# Altium integrated library Analog Devices Data Converters Digital-to-Analog Converters.IntLib: 2231 symbols (part 149 of 181)
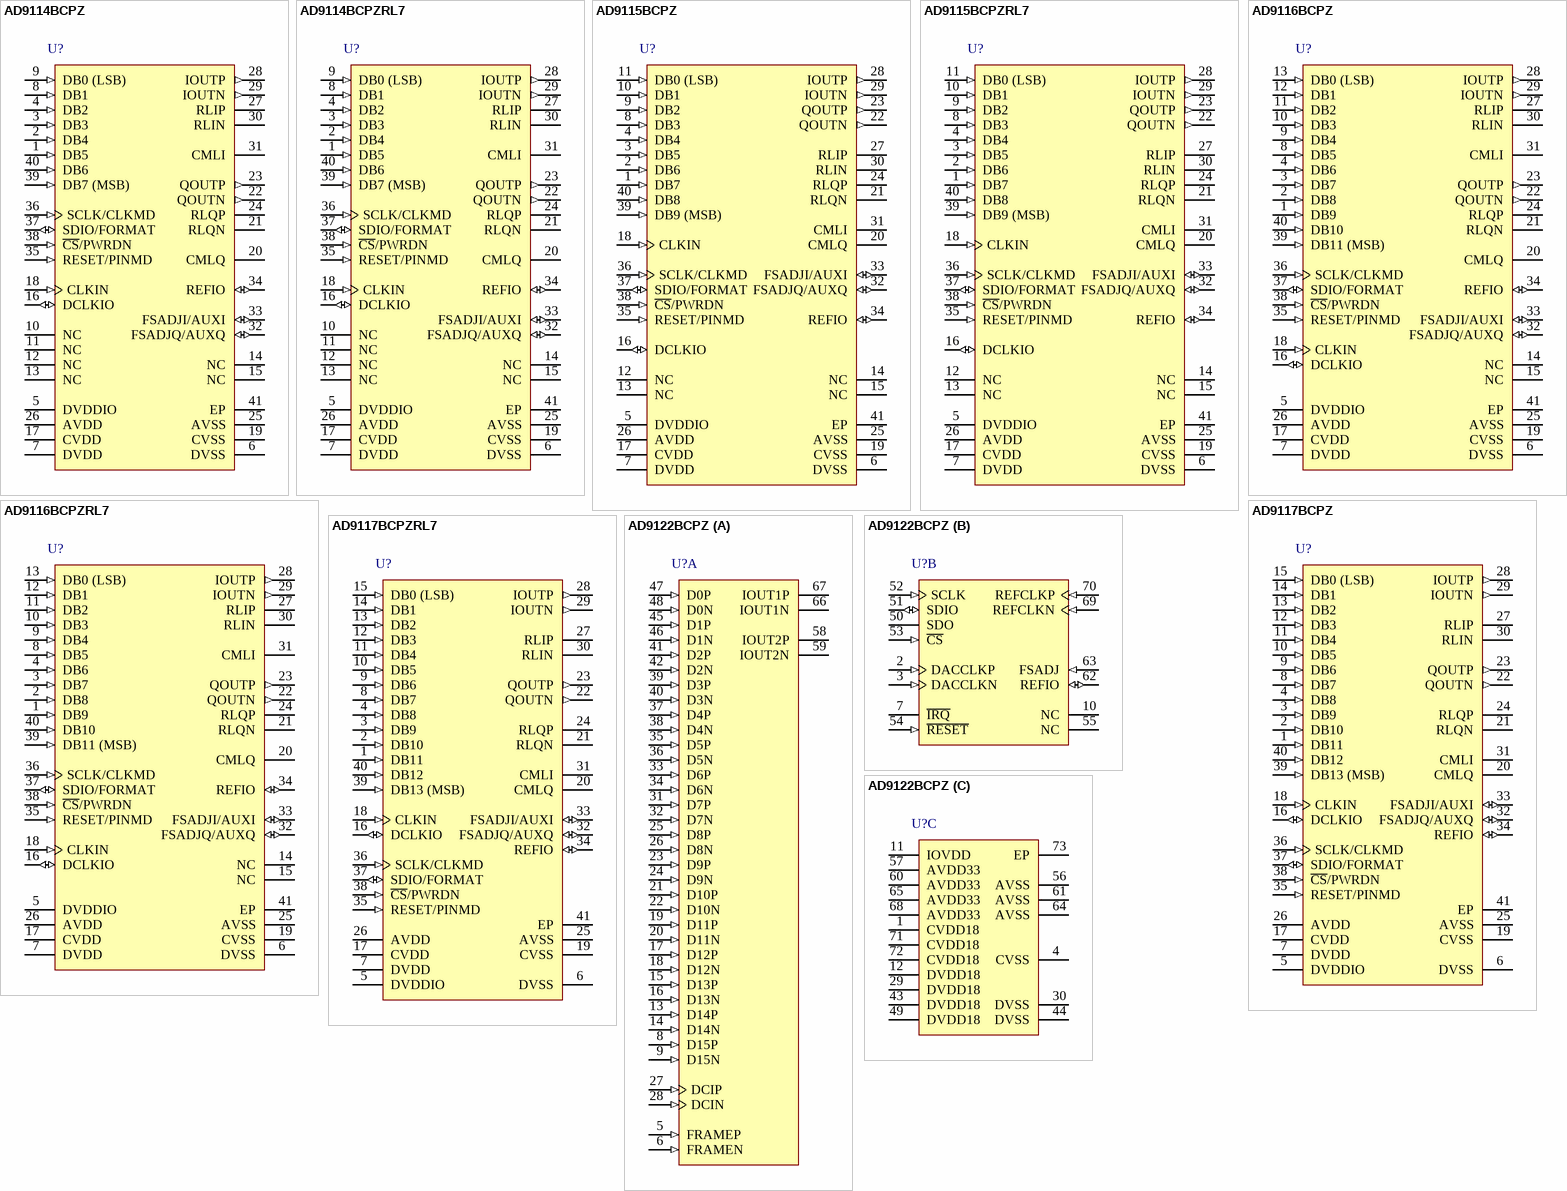
[diagram p262: symbols AD9114BCPZ to AD9122BCPZ]

## AD9117BCPZ
designator U?
Dual 14-Bit Low Power TxDAC Digital-to-Analog Converter, 0 to +70 degC, CP-40-1, Pb-Free, Tray; Generic Part Number: AD9117; Manufacturer: Analog Devices; PartNumber: AD9117BCPZ; # DAC Outputs: 2; Max V+: 3.3V; Resolution (Bits): 14; Single Supply: Yes; DatasheetVersion: Rev.B; PackageVersion: Oct-2006; PackageReference: CP-40-1; PackageDescription: 40-Pin Lead Frame Chip Scale Package [LFCSP_VQ] Very Thin Quad; Supplier 1: Digi-Key; Supplier Part Number 1: AD9117BCPZ-ND; Supplier 2: Farnell; Supplier Part Number 2: 2312691; Supplier 3: Newark; Supplier Part Number 3: 07P8997; Supplier 4: Mouser; Supplier Part Number 4: 584-AD9117BCPZ; Packing: Tray; RoHS: Y; Mounting Technology: Surface Mount; Code_JEDEC: MO-220-VJJD-2; ComponentLink1Description: Manufacturer URL; ComponentLink1URL: http://www.analog.com/en/index.html; ComponentLink2Description: Datasheet; ComponentLink2URL: http://www.analog.com/static/imported-files/data_sheets/AD9114_9115_9116_9117.pdf; ComponentLink3Description: Package Specification; ComponentLink3URL: http://www.analog.com/static/imported-files/packages/PKG_PDF/LFCSP(CP)/CP_40_1.pdf; ComponentLink4Description: Product URL; ComponentLink4URL: http://www.analog.com/en/digital-to-analog-converters/da-converters/ad9117/products/product.html; ComponentLink5Description: Reference Design URL; ComponentLink5URL: http://www.analog.com/en/digital-to-analog-converters/da-converters/ad9117/products/product.html#prod_cross_sell
footprint CP-40-1_N (QFN, 40-Leads, Body 6x6mm, Pitch 0.5mm, Thermal Pad 4.3x4.3mm, IPC Medium Density)
footprint CP-40-1_L (QFN, 40-Leads, Body 6x6mm, Pitch 0.5mm, Thermal Pad 4.3x4.3mm, IPC High Density)
footprint CP-40-1_M (QFN, 40-Leads, Body 6x6mm, Pitch 0.5mm, Thermal Pad 4.3x4.3mm, IPC Low Density)
pins: 1 DB11 (in) "Digital Input.", 2 DB10 (in) "Digital Input.", 3 DB9 (in) "Digital Input.", 4 DB8 (in) "Digital Input.", 5 DVDDIO (power) "Digital I/O Supply Voltage Input (1.8 V to 3.3 V Nominal).", 6 DVSS (power) "Digital Common.", 7 DVDD (power) "Digital Core Supply Voltage Output (1.8 V). Strap DVDD to DVDDIO at 1.8 V. If DVDDIO > 1.8 V, bypass DVDD  with a 1.0 uF capacitor; however, do not otherwise connect it. The LDO should not drive external loads.", 8 DB7 (in) "Digital Input.", 9 DB6 (in) "Digital Input.", 10 DB5 (in) "Digital Input.", 11 DB4 (in) "Digital Input.", 12 DB3 (in) "Digital Input.", 13 DB2 (in) "Digital Input.", 14 DB1 (in) "Digital Input.", 15 DB0 (LSB) (in) "Digital Input (LSB).", 16 DCLKIO (io) "Data Input/Output Clock. Clock used to qualify input data.", 17 CVDD (power) "Sampling Clock Supply Voltage Input (1.8 V to 3.3 V). CVDD must be >= DVDD.", 18 CLKIN (in) "LVCMOS Sampling Clock Input.", 19 CVSS (power) "Sampling Clock Supply Voltage Common.", 20 CMLQ "Q DAC Output Common-Mode Level. When the internal on-chip (QRCML) is enabled, this pin is connected to the on-chip QRCML resistor. It is recommended to leave this pin unconnected. When the internal on-chip (QRCML) is (See Datasheet)", 21 RLQN "Load Resistor (62.5 ohm) to the CMLQ Pin. For the internal load resistor to be used, this pin should be tied to QOUTN externally.", 22 QOUTN (out) "Complementary Q DAC Current Output. Full-scale current is sourced when all data bits are 0s.", 23 QOUTP (out) "Q DAC Current Output. Full-scale current is sourced when all data bits are 1s.", 24 RLQP "Load Resistor (62.5 ohm) to the CMLQ Pin. For the internal load resistor to be used, this pin should be tied to QOUTP externally.", 25 AVSS (power) "Analog Common.", 26 AVDD (power) "Analog Supply Voltage Input (1.8 V to 3.3 V).", 27 RLIP "Load Resistor (62.5 ohm) to the CMLI Pin. For the internal load resistor to be used, this pin should be tied to IOUTP externally.", 28 IOUTP (out) "I DAC Current Output. Full-scale current is sourced when all data bits are 1s.", 29 IOUTN (out) "Complementary I DAC Current Output. Full-scale current is sourced when all data bits are 0s.", 30 RLIN "Load Resistor (62.5 ohm) to the CMLI Pin. For the internal load resistor to be used, this pin should be tied to IOUTN externally.", 31 CMLI "I DAC Output Common-Mode Level. When the internal on-chip (IRCML) is enabled, this pin is connected to the on-chip IRCML resistor. It is recommended to leave this pin unconnected. When the internal on-chip (IRCML)  is (See Datasheet)", 32 FSADJQ/AUXQ (io) "Full-Scale Current Output Adjust (FSADJQ). When the internal on chip (QRSET) is disabled, this pin is the full-  scale current output adjust for Q DAC and must be connected to AVSS through a resistor, see the Theory of  (See Datasheet)", 33 FSADJI/AUXI (io) "Full-Scale Current Output Adjust (FSADJI). When the internal on-chip (IRSET) is disabled, this pin is the full-scale  current output adjust for I DAC and must be connected to AVSS through a resistor, see the Theory of (See Datasheet)", 34 REFIO (io) "Reference Input/Output. Serves as a reference input when the internal reference is disabled. Provides a 1.0 V reference output when in internal reference mode (a 0.1 uF capacitor to AVSS is required).", 35 RESET/PINMD (in) "This pin defines the operation mode of the part. A logic low (pull-down to DVSS) sets the part in SPI mode.A logic high (pull-up to DVDDIO) puts the device into pin mode (PINMD). Pulse RESET high to reset the SPI registers (See Datasheet)", 36 SCLK/CLKMD (in) "Clock Input for Serial Port (SCLK). In SPI mode, this pin is the clock input for the serial port.Clock Mode (CLKMD). In pin mode, CLKMD determines the phase of the internal retiming clock. When DCLKIO = CLKIN, tie it to 0. (See Datasheet)", 37 SDIO/FORMAT (io) "Serial Port Input/Output (SDIO). In SPI mode, this pin is the bidirectional data line for the serial port.Format Pin (FORMAT). In pin mode, FORMAT determines the data format of digital data. A logic low (pull-down to DVSS) (See Datasheet)", 38 ~{CS}/PWRDN (in) "Active Low Chip Select (C\S\). In SPI mode, this pin serves as the active low chip select.Power-Down (PWRDN). In pin mode, a logic high (pull-up to DVDDIO) powers down the device, except for the SPI port.", 39 DB13 (MSB) (in) "Digital Input (MSB).", 40 DB12 (in) "Digital Input.", 41 EP (power) "The exposed pad is connected to AVSS and must be soldered to the ground plane. Exposed metal at the  package corners is connected to this pad."

## AD9117BCPZRL7
designator U?
Dual 14-Bit Low Power TxDAC Digital-to-Analog Converters, 0 to +70 degC, CP-40-1, Pb-Free, Reel; Generic Part Number: AD9117; Manufacturer: Analog Devices; PartNumber: AD9117BCPZRL7; # DAC Outputs: 2; Max V+: 3.3V; Resolution (Bits): 14; Single Supply: Yes; DatasheetVersion: Rev.B; PackageVersion: Oct-2006; PackageReference: CP-40-1; PackageDescription: 40-Pin Lead Frame Chip Scale Package [LFCSP_VQ] Very Thin Quad; Supplier 1: Digi-Key; Supplier Part Number 1: AD9117BCPZRL7-ND; Supplier 2: Mouser; Supplier Part Number 2: 584-AD9117BCPZR7; Packing: Reel; RoHS: Y; Mounting Technology: Surface Mount; Code_JEDEC: MO-220-VJJD-2; ComponentLink1Description: Manufacturer URL; ComponentLink1URL: http://www.analog.com/en/index.html; ComponentLink2Description: Datasheet; ComponentLink2URL: http://www.analog.com/static/imported-files/data_sheets/AD9114_9115_9116_9117.pdf; ComponentLink3Description: Package Specification; ComponentLink3URL: http://www.analog.com/static/imported-files/packages/PKG_PDF/LFCSP(CP)/CP_40_1.pdf; ComponentLink4Description: Product URL; ComponentLink4URL: http://www.analog.com/en/digital-to-analog-converters/da-converters/ad9117/products/product.html; ComponentLink5Description: Reference Design URL; ComponentLink5URL: http://www.analog.com/en/digital-to-analog-converters/da-converters/ad9117/products/product.html#prod_cross_sell
footprint CP-40-1_N (QFN, 40-Leads, Body 6x6mm, Pitch 0.5mm, Thermal Pad 4.3x4.3mm, IPC Medium Density)
footprint CP-40-1_L (QFN, 40-Leads, Body 6x6mm, Pitch 0.5mm, Thermal Pad 4.3x4.3mm, IPC High Density)
footprint CP-40-1_M (QFN, 40-Leads, Body 6x6mm, Pitch 0.5mm, Thermal Pad 4.3x4.3mm, IPC Low Density)
pins: 1 DB11 (in) "Digital Input.", 2 DB10 (in) "Digital Input.", 3 DB9 (in) "Digital Input.", 4 DB8 (in) "Digital Input.", 5 DVDDIO (power) "Digital I/O Supply Voltage Input (1.8 V to 3.3 V Nominal).", 6 DVSS (power) "Digital Common.", 7 DVDD (power) "Digital Core Supply Voltage Output (1.8 V). Strap DVDD to DVDDIO at 1.8 V. If DVDDIO > 1.8 V, bypass DVDD  with a 1.0 uF capacitor; however, do not otherwise connect it. The LDO should not drive external loads.", 8 DB7 (in) "Digital Input.", 9 DB6 (in) "Digital Input.", 10 DB5 (in) "Digital Input.", 11 DB4 (in) "Digital Input.", 12 DB3 (in) "Digital Input.", 13 DB2 (in) "Digital Input.", 14 DB1 (in) "Digital Input.", 15 DB0 (LSB) (in) "Digital Input (LSB).", 16 DCLKIO (io) "Data Input/Output Clock. Clock used to qualify input data.", 17 CVDD (power) "Sampling Clock Supply Voltage Input (1.8 V to 3.3 V). CVDD must be >= DVDD.", 18 CLKIN (in) "LVCMOS Sampling Clock Input.", 19 CVSS (power) "Sampling Clock Supply Voltage Common.", 20 CMLQ "Q DAC Output Common-Mode Level. When the internal on-chip (QRCML) is enabled, this pin is connected to the on-chip QRCML resistor. It is recommended to leave this pin unconnected. When the internal on-chip (QRCML) is (See Datasheet)", 21 RLQN "Load Resistor (62.5 ohm) to the CMLQ Pin. For the internal load resistor to be used, this pin should be tied to QOUTN externally.", 22 QOUTN (out) "Complementary Q DAC Current Output. Full-scale current is sourced when all data bits are 0s.", 23 QOUTP (out) "Q DAC Current Output. Full-scale current is sourced when all data bits are 1s.", 24 RLQP "Load Resistor (62.5 ohm) to the CMLQ Pin. For the internal load resistor to be used, this pin should be tied to QOUTP externally.", 25 AVSS (power) "Analog Common.", 26 AVDD (power) "Analog Supply Voltage Input (1.8 V to 3.3 V).", 27 RLIP "Load Resistor (62.5 ohm) to the CMLI Pin. For the internal load resistor to be used, this pin should be tied to IOUTP externally.", 28 IOUTP (out) "I DAC Current Output. Full-scale current is sourced when all data bits are 1s.", 29 IOUTN (out) "Complementary I DAC Current Output. Full-scale current is sourced when all data bits are 0s.", 30 RLIN "Load Resistor (62.5 ohm) to the CMLI Pin. For the internal load resistor to be used, this pin should be tied to IOUTN externally.", 31 CMLI "I DAC Output Common-Mode Level. When the internal on-chip (IRCML) is enabled, this pin is connected to the on-chip IRCML resistor. It is recommended to leave this pin unconnected. When the internal on-chip (IRCML)  is (See Datasheet)", 32 FSADJQ/AUXQ (io) "Full-Scale Current Output Adjust (FSADJQ). When the internal on chip (QRSET) is disabled, this pin is the full-  scale current output adjust for Q DAC and must be connected to AVSS through a resistor, see the Theory of  (See Datasheet)", 33 FSADJI/AUXI (io) "Full-Scale Current Output Adjust (FSADJI). When the internal on-chip (IRSET) is disabled, this pin is the full-scale  current output adjust for I DAC and must be connected to AVSS through a resistor, see the Theory of (See Datasheet)", 34 REFIO (io) "Reference Input/Output. Serves as a reference input when the internal reference is disabled. Provides a 1.0 V reference output when in internal reference mode (a 0.1 uF capacitor to AVSS is required).", 35 RESET/PINMD (in) "This pin defines the operation mode of the part. A logic low (pull-down to DVSS) sets the part in SPI mode.A logic high (pull-up to DVDDIO) puts the device into pin mode (PINMD). Pulse RESET high to reset the SPI registers (See Datasheet)", 36 SCLK/CLKMD (in) "Clock Input for Serial Port (SCLK). In SPI mode, this pin is the clock input for the serial port.Clock Mode (CLKMD). In pin mode, CLKMD determines the phase of the internal retiming clock. When DCLKIO = CLKIN, tie it to 0. (See Datasheet)", 37 SDIO/FORMAT (io) "Serial Port Input/Output (SDIO). In SPI mode, this pin is the bidirectional data line for the serial port.Format Pin (FORMAT). In pin mode, FORMAT determines the data format of digital data. A logic low (pull-down to DVSS) (See Datasheet)", 38 ~{CS}/PWRDN (in) "Active Low Chip Select (C\S\). In SPI mode, this pin serves as the active low chip select.Power-Down (PWRDN). In pin mode, a logic high (pull-up to DVDDIO) powers down the device, except for the SPI port.", 39 DB13 (MSB) (in) "Digital Input (MSB).", 40 DB12 (in) "Digital Input.", 41 EP (power) "The exposed pad is connected to AVSS and must be soldered to the ground plane. Exposed metal at the  package corners is connected to this pad."

## AD9122BCPZ
designator U?
Dual 16-Bit TxDAC, 1230 Msps, -40 to +85 degC, CP-72-7, Pb-Free, Tray; Generic Part Number: AD9122; Manufacturer: Analog Devices; PartNumber: AD9122BCPZ; # DAC Outputs: 2; Max V+: 3.47V; Op Pwr Diss: 1.1W; Resolution (Bits): 16; Single Supply: No; DatasheetVersion: Rev.B; PackageVersion: 052809-A; PackageReference: CP-72-7; PackageDescription: 72-Lead Lead Frame Chip Scale Package [LFCSP_VQ] 10 x 10 mm Body, Very Thin Quad; Supplier 1: Digi-Key; Supplier Part Number 1: AD9122BCPZ-ND; Supplier 2: Farnell; Supplier Part Number 2: 2096197; Supplier 3: Newark; Supplier Part Number 3: 33R2721; Supplier 4: Mouser; Supplier Part Number 4: 584-AD9122BCPZ; Packing: Tray; RoHS: Y; Mounting Technology: Surface Mount; Code_JEDEC: MO-220-VNND-4; ComponentLink1Description: Manufacturer URL; ComponentLink1URL: http://www.analog.com/en/index.html; ComponentLink2Description: Datasheet; ComponentLink2URL: http://www.analog.com/static/imported-files/data_sheets/AD9122.pdf; ComponentLink3Description: Package Specification; ComponentLink3URL: http://www.analog.com/static/imported-files/packages/PKG_PDF/LFCSP(CP)/CP_72_7.pdf; ComponentLink4Description: Product URL; ComponentLink4URL: http://www.analog.com/en/digital-to-analog-converters/da-converters/ad9122/products/product.html
footprint CP-72-7_N (QFN, 72-Leads, Body 10x10mm, Pitch 0.5mm, Thermal Pad 6x6mm, IPC Medium Density)
footprint CP-72-7_L (QFN, 72-Leads, Body 10x10mm, Pitch 0.5mm, Thermal Pad 6x6mm, IPC High Density)
footprint CP-72-7_M (QFN, 72-Leads, Body 10x10mm, Pitch 0.5mm, Thermal Pad 6x6mm, IPC Low Density)
part A pins: 5 FRAMEP (in) "Frame Input, Positive. This pin must be tied to DVSS if not used.", 6 FRAMEN (in) "Frame Input, Negative. This pin must be tied to DVDD18 if not used.", 8 D15P (in) "Data Bit 15 (MSB), Positive.", 9 D15N (in) "Data Bit 15 (MSB), Negative.", 13 D14P (in) "Data Bit 14, Positive.", 14 D14N (in) "Data Bit 14, Negative.", 15 D13P (in) "Data Bit 13, Positive.", 16 D13N (in) "Data Bit 13, Negative.", 17 D12P (in) "Data Bit 12, Positive.", 18 D12N (in) "Data Bit 12, Negative.", 19 D11P (in) "Data Bit 11, Positive.", 20 D11N (in) "Data Bit 11, Negative.", 21 D10P (in) "Data Bit 10, Positive.", 22 D10N (in) "Data Bit 10, Negative.", 23 D9P (in) "Data Bit 9, Positive.", 24 D9N (in) "Data Bit 9, Negative.", 25 D8P (in) "Data Bit 8, Positive.", 26 D8N (in) "Data Bit 8, Negative.", 27 DCIP (in) "Data Clock Input, Positive.", 28 DCIN (in) "Data Clock Input, Negative.", 31 D7P (in) "Data Bit 7, Positive.", 32 D7N (in) "Data Bit 7, Negative.", 33 D6P (in) "Data Bit 6, Positive.", 34 D6N (in) "Data Bit 6, Negative.", 35 D5P (in) "Data Bit 5, Positive.", 36 D5N (in) "Data Bit 5, Negative.", 37 D4P (in) "Data Bit 4, Positive.", 38 D4N (in) "Data Bit 4, Negative.", 39 D3P (in) "Data Bit 3, Positive.", 40 D3N (in) "Data Bit 3, Negative.", 41 D2P (in) "Data Bit 2, Positive.", 42 D2N (in) "Data Bit 2, Negative.", 45 D1P (in) "Data Bit 1, Positive.", 46 D1N (in) "Data Bit 1, Negative.", 47 D0P (in) "Data Bit 0 (LSB), Positive.", 48 D0N (in) "Data Bit 0 (LSB), Negative.", 58 IOUT2P (hiz) "Q DAC Positive Current Output.", 59 IOUT2N (hiz) "Q DAC negative Current Output.", 66 IOUT1N (hiz) "DAC Negative Current Output.", 67 IOUT1P (hiz) "DAC positive Current Output."
part B pins: 2 DACCLKP (in) "DAC Clock Input, Positive.", 3 DACCLKN (in) "DAC Clock Input, Negative.", 7 ~{IRQ} (oc) "Interrupt Request. Open-drain, active low output. Connect an external pull-up to IOVDD through a 10 kO resistor.", 10 NC "No Connect. Do not connect to this pin.", 50 SDO (hiz) "Serial Port Data Output (CMOS Levels with Respect to IOVDD).", 51 SDIO (io) "Serial Port Data Input/Output (CMOS Levels with Respect to IOVDD).", 52 SCLK (in) "Serial Port Clock Input (CMOS Levels with Respect to IOVDD).", 53 ~{CS} (in) "Serial Port Chip Select, Active Low (CMOS Levels with Respect to IOVDD).", 54 ~{RESET} (in) "Reset, Active Low (CMOS Levels with Respect to IOVDD).", 55 NC "No Connect. Do not connect to this pin.", 62 REFIO (io) "Voltage Reference. Nominally 1.2 V output. Should be decoupled to AVSS.", 63 FSADJ (in) "Full-Scale Current Output Adjust. Place a 10 kohm resistor from this pin to AVSS.", 69 REFCLKN (in) "PLL Reference Clock Input, Negative. This pin has a secondary function as a synchronization input.", 70 REFCLKP (in) "PLL Reference Clock Input, positive. This pin has a secondary function as a synchronization input."
part C pins: 1 CVDD18 (power) "1.8 V Clock Supply. Supplies clock receivers, clock distribution, and PLL circuitry.", 4 CVSS (power) "Clock Supply Common.", 11 IOVDD (power) "Supply Pin for Serial Port I/O Pins, R\E\S\E\T\, and I\R\Q\. 1.8 V to 3.3 V can be supplied to this pin.", 12 DVDD18 (power) "1.8 V Digital Supply. Supplies power to digital core and digital data ports.", 29 DVDD18 (power) "1.8 V Digital Supply. Supplies power to digital core and digital data ports.", 30 DVSS (power) "Digital Common.", 43 DVDD18 (power) "1.8 V Digital Supply. Supplies power to digital core and digital data ports.", 44 DVSS (power) "Digital Common.", 49 DVDD18 (power) "1.8 V Digital Supply. Supplies power to digital core and digital data ports.", 56 AVSS (power) "Analog Supply Common.", 57 AVDD33 (power) "3.3 V Analog Supply.", 60 AVDD33 (power) "3.3 V Analog Supply.", 61 AVSS (power) "Analog Supply Common.", 64 AVSS (power) "Analog Supply Common.", 65 AVDD33 (power) "3.3 V Analog Supply.", 68 AVDD33 (power) "3.3 V Analog Supply.", 71 CVDD18 (power) "1.8 V Clock Supply. Supplies clock receivers, clock distribution, and PLL circuitry.", 72 CVDD18 (power) "1.8 V Clock Supply. Supplies clock receivers, clock distribution, and PLL circuitry.", 73 EP (power) "The exposed pad (EPAD) must be soldered to the ground plane (AVSS). The EPAD provides an electrical, thermal, and mechanical connection to the board."

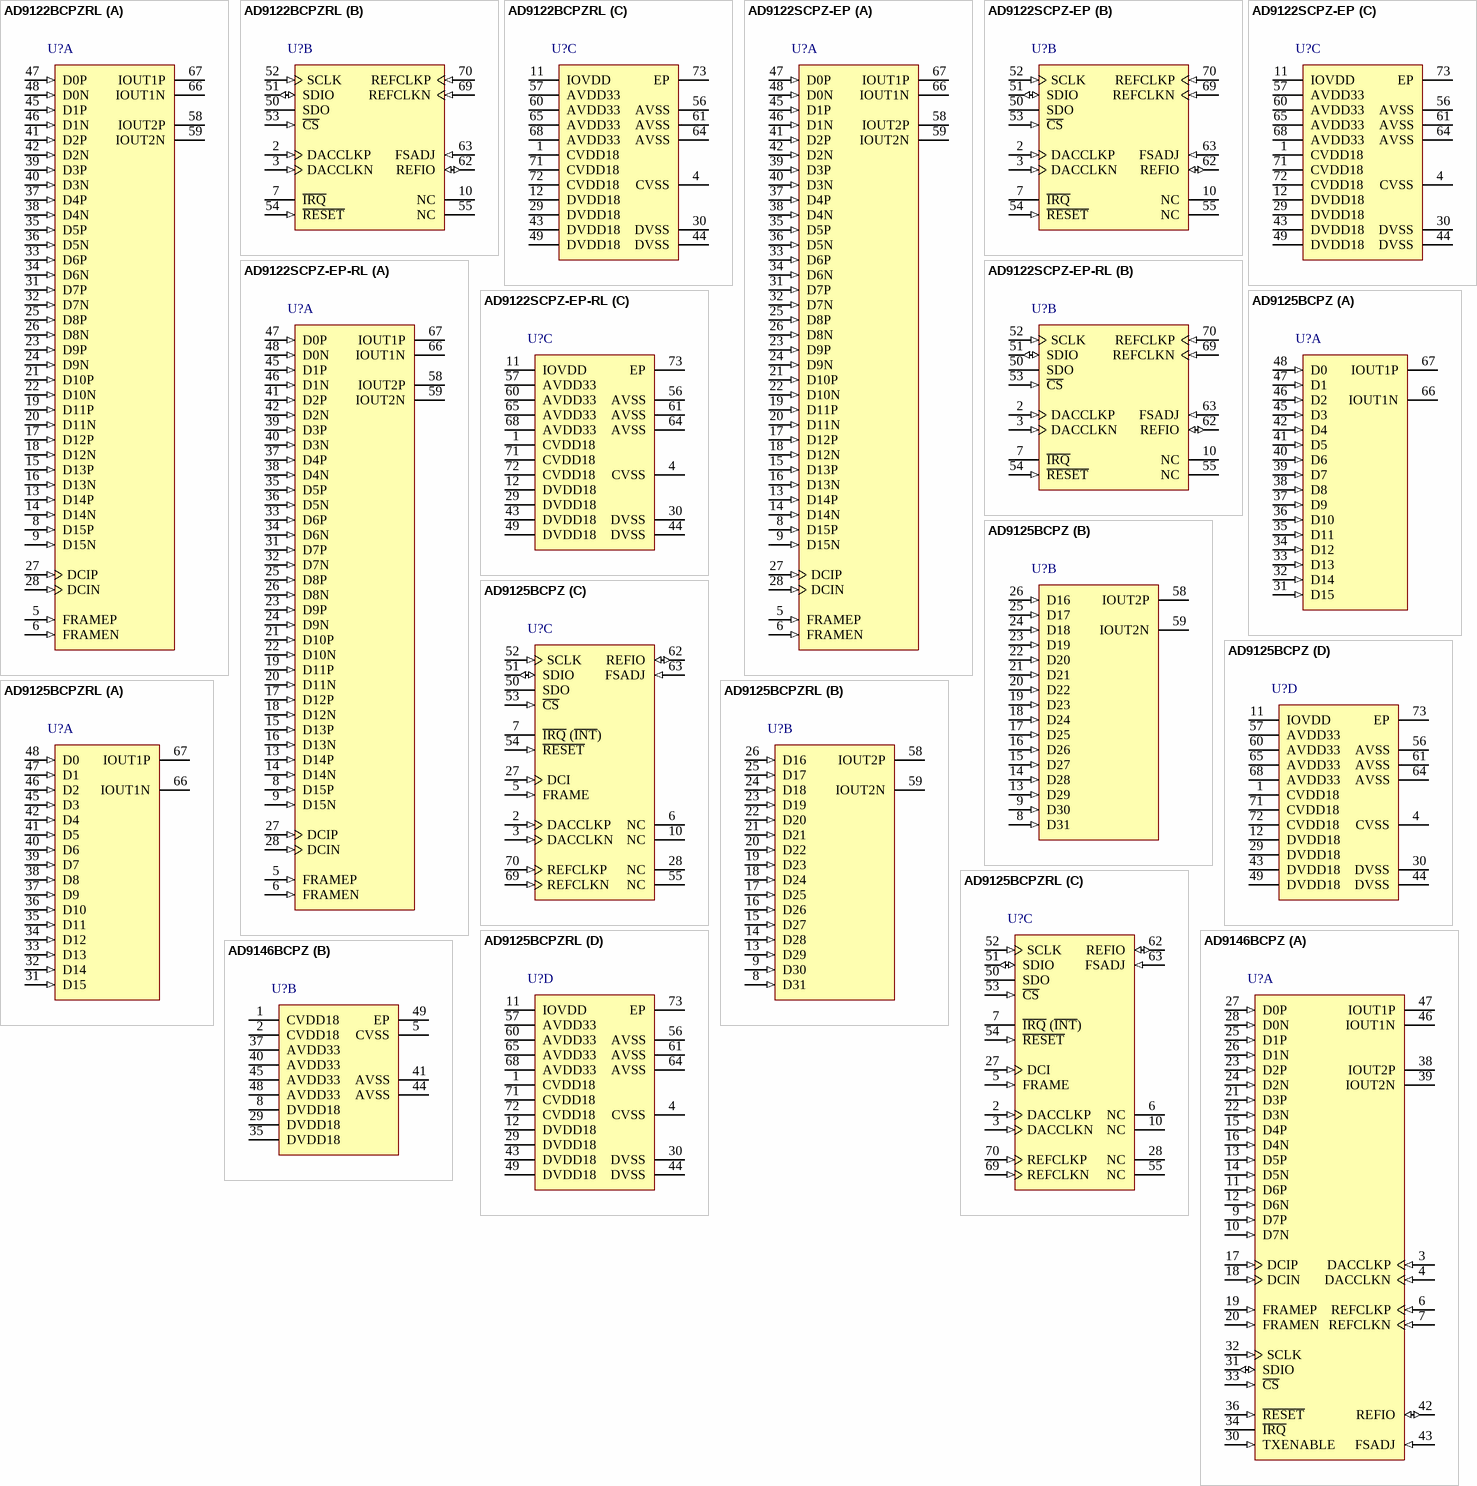
[diagram p84: symbols AD9122BCPZRL to AD9146BCPZ]

## AD9122BCPZRL
designator U?
Dual 16-Bit TxDAC, 1230 Msps, -40 to +85 degC, CP-72-7, Pb-Free, Reel; Generic Part Number: AD9122; Manufacturer: Analog Devices; PartNumber: AD9122BCPZRL; # DAC Outputs: 2; Max V+: 3.47V; Op Pwr Diss: 1.1W; Resolution (Bits): 16; Single Supply: No; DatasheetVersion: Rev.B; PackageVersion: 052809-A; PackageReference: CP-72-7; PackageDescription: 72-Lead Lead Frame Chip Scale Package [LFCSP_VQ] 10 x 10 mm Body, Very Thin Quad; Supplier 1: Digi-Key; Supplier Part Number 1: AD9122BCPZRL-ND; Supplier 2: Newark; Supplier Part Number 2: 33R2722; Supplier 3: Mouser; Supplier Part Number 3: 584-AD9122BCPZR; Packing: Reel; RoHS: Y; Mounting Technology: Surface Mount; Code_JEDEC: MO-220-VNND-4; ComponentLink1Description: Manufacturer URL; ComponentLink1URL: http://www.analog.com/en/index.html; ComponentLink2Description: Datasheet; ComponentLink2URL: http://www.analog.com/static/imported-files/data_sheets/AD9122.pdf; ComponentLink3Description: Package Specification; ComponentLink3URL: http://www.analog.com/static/imported-files/packages/PKG_PDF/LFCSP(CP)/CP_72_7.pdf; ComponentLink4Description: Product URL; ComponentLink4URL: http://www.analog.com/en/digital-to-analog-converters/da-converters/ad9122/products/product.html
footprint CP-72-7_N (QFN, 72-Leads, Body 10x10mm, Pitch 0.5mm, Thermal Pad 6x6mm, IPC Medium Density)
footprint CP-72-7_L (QFN, 72-Leads, Body 10x10mm, Pitch 0.5mm, Thermal Pad 6x6mm, IPC High Density)
footprint CP-72-7_M (QFN, 72-Leads, Body 10x10mm, Pitch 0.5mm, Thermal Pad 6x6mm, IPC Low Density)
part A pins: 5 FRAMEP (in) "Frame Input, Positive. This pin must be tied to DVSS if not used.", 6 FRAMEN (in) "Frame Input, Negative. This pin must be tied to DVDD18 if not used.", 8 D15P (in) "Data Bit 15 (MSB), Positive.", 9 D15N (in) "Data Bit 15 (MSB), Negative.", 13 D14P (in) "Data Bit 14, Positive.", 14 D14N (in) "Data Bit 14, Negative.", 15 D13P (in) "Data Bit 13, Positive.", 16 D13N (in) "Data Bit 13, Negative.", 17 D12P (in) "Data Bit 12, Positive.", 18 D12N (in) "Data Bit 12, Negative.", 19 D11P (in) "Data Bit 11, Positive.", 20 D11N (in) "Data Bit 11, Negative.", 21 D10P (in) "Data Bit 10, Positive.", 22 D10N (in) "Data Bit 10, Negative.", 23 D9P (in) "Data Bit 9, Positive.", 24 D9N (in) "Data Bit 9, Negative.", 25 D8P (in) "Data Bit 8, Positive.", 26 D8N (in) "Data Bit 8, Negative.", 27 DCIP (in) "Data Clock Input, Positive.", 28 DCIN (in) "Data Clock Input, Negative.", 31 D7P (in) "Data Bit 7, Positive.", 32 D7N (in) "Data Bit 7, Negative.", 33 D6P (in) "Data Bit 6, Positive.", 34 D6N (in) "Data Bit 6, Negative.", 35 D5P (in) "Data Bit 5, Positive.", 36 D5N (in) "Data Bit 5, Negative.", 37 D4P (in) "Data Bit 4, Positive.", 38 D4N (in) "Data Bit 4, Negative.", 39 D3P (in) "Data Bit 3, Positive.", 40 D3N (in) "Data Bit 3, Negative.", 41 D2P (in) "Data Bit 2, Positive.", 42 D2N (in) "Data Bit 2, Negative.", 45 D1P (in) "Data Bit 1, Positive.", 46 D1N (in) "Data Bit 1, Negative.", 47 D0P (in) "Data Bit 0 (LSB), Positive.", 48 D0N (in) "Data Bit 0 (LSB), Negative.", 58 IOUT2P (hiz) "Q DAC Positive Current Output.", 59 IOUT2N (hiz) "Q DAC negative Current Output.", 66 IOUT1N (hiz) "DAC Negative Current Output.", 67 IOUT1P (hiz) "DAC positive Current Output."
part B pins: 2 DACCLKP (in) "DAC Clock Input, Positive.", 3 DACCLKN (in) "DAC Clock Input, Negative.", 7 ~{IRQ} (oc) "Interrupt Request. Open-drain, active low output. Connect an external pull-up to IOVDD through a 10 kO resistor.", 10 NC "No Connect. Do not connect to this pin.", 50 SDO (hiz) "Serial Port Data Output (CMOS Levels with Respect to IOVDD).", 51 SDIO (io) "Serial Port Data Input/Output (CMOS Levels with Respect to IOVDD).", 52 SCLK (in) "Serial Port Clock Input (CMOS Levels with Respect to IOVDD).", 53 ~{CS} (in) "Serial Port Chip Select, Active Low (CMOS Levels with Respect to IOVDD).", 54 ~{RESET} (in) "Reset, Active Low (CMOS Levels with Respect to IOVDD).", 55 NC "No Connect. Do not connect to this pin.", 62 REFIO (io) "Voltage Reference. Nominally 1.2 V output. Should be decoupled to AVSS.", 63 FSADJ (in) "Full-Scale Current Output Adjust. Place a 10 kohm resistor from this pin to AVSS.", 69 REFCLKN (in) "PLL Reference Clock Input, Negative. This pin has a secondary function as a synchronization input.", 70 REFCLKP (in) "PLL Reference Clock Input, positive. This pin has a secondary function as a synchronization input."
part C pins: 1 CVDD18 (power) "1.8 V Clock Supply. Supplies clock receivers, clock distribution, and PLL circuitry.", 4 CVSS (power) "Clock Supply Common.", 11 IOVDD (power) "Supply Pin for Serial Port I/O Pins, R\E\S\E\T\, and I\R\Q\. 1.8 V to 3.3 V can be supplied to this pin.", 12 DVDD18 (power) "1.8 V Digital Supply. Supplies power to digital core and digital data ports.", 29 DVDD18 (power) "1.8 V Digital Supply. Supplies power to digital core and digital data ports.", 30 DVSS (power) "Digital Common.", 43 DVDD18 (power) "1.8 V Digital Supply. Supplies power to digital core and digital data ports.", 44 DVSS (power) "Digital Common.", 49 DVDD18 (power) "1.8 V Digital Supply. Supplies power to digital core and digital data ports.", 56 AVSS (power) "Analog Supply Common.", 57 AVDD33 (power) "3.3 V Analog Supply.", 60 AVDD33 (power) "3.3 V Analog Supply.", 61 AVSS (power) "Analog Supply Common.", 64 AVSS (power) "Analog Supply Common.", 65 AVDD33 (power) "3.3 V Analog Supply.", 68 AVDD33 (power) "3.3 V Analog Supply.", 71 CVDD18 (power) "1.8 V Clock Supply. Supplies clock receivers, clock distribution, and PLL circuitry.", 72 CVDD18 (power) "1.8 V Clock Supply. Supplies clock receivers, clock distribution, and PLL circuitry.", 73 EP (power) "The exposed pad (EPAD) must be soldered to the ground plane (AVSS). The EPAD provides an electrical, thermal, and mechanical connection to the board."

## AD9122SCPZ-EP
designator U?
Dual 16-Bit TxDAC, 1230 Msps, -55 to +125 degC, CP-72-7, Pb-Free, Tray; Generic Part Number: AD9122; Manufacturer: Analog Devices; PartNumber: AD9122SCPZ-EP; # DAC Outputs: 2; Max V+: 3.47V; Op Pwr Diss: 1.1W; Resolution (Bits): 16; Single Supply: No; DatasheetVersion: Rev.B; PackageVersion: 052809-A; PackageReference: CP-72-7; PackageDescription: 72-Lead Lead Frame Chip Scale Package [LFCSP_VQ] 10 x 10 mm Body, Very Thin Quad; Supplier 1: Digi-Key; Supplier Part Number 1: AD9122SCPZ-EP-ND; Supplier 2: Mouser; Supplier Part Number 2: 584-AD9122SCPZ-EP; Packing: Tray; RoHS: Y; Mounting Technology: Surface Mount; Code_JEDEC: MO-220-VNND-4; ComponentLink1Description: Manufacturer URL; ComponentLink1URL: http://www.analog.com/en/index.html; ComponentLink2Description: Datasheet; ComponentLink2URL: http://www.analog.com/static/imported-files/data_sheets/AD9122.pdf; ComponentLink3Description: Package Specification; ComponentLink3URL: http://www.analog.com/static/imported-files/packages/PKG_PDF/LFCSP(CP)/CP_72_7.pdf; ComponentLink4Description: Product URL; ComponentLink4URL: http://www.analog.com/en/digital-to-analog-converters/da-converters/ad9122/products/product.html
footprint CP-72-7_N (QFN, 72-Leads, Body 10x10mm, Pitch 0.5mm, Thermal Pad 6x6mm, IPC Medium Density)
footprint CP-72-7_L (QFN, 72-Leads, Body 10x10mm, Pitch 0.5mm, Thermal Pad 6x6mm, IPC High Density)
footprint CP-72-7_M (QFN, 72-Leads, Body 10x10mm, Pitch 0.5mm, Thermal Pad 6x6mm, IPC Low Density)
part A pins: 5 FRAMEP (in) "Frame Input, Positive. This pin must be tied to DVSS if not used.", 6 FRAMEN (in) "Frame Input, Negative. This pin must be tied to DVDD18 if not used.", 8 D15P (in) "Data Bit 15 (MSB), Positive.", 9 D15N (in) "Data Bit 15 (MSB), Negative.", 13 D14P (in) "Data Bit 14, Positive.", 14 D14N (in) "Data Bit 14, Negative.", 15 D13P (in) "Data Bit 13, Positive.", 16 D13N (in) "Data Bit 13, Negative.", 17 D12P (in) "Data Bit 12, Positive.", 18 D12N (in) "Data Bit 12, Negative.", 19 D11P (in) "Data Bit 11, Positive.", 20 D11N (in) "Data Bit 11, Negative.", 21 D10P (in) "Data Bit 10, Positive.", 22 D10N (in) "Data Bit 10, Negative.", 23 D9P (in) "Data Bit 9, Positive.", 24 D9N (in) "Data Bit 9, Negative.", 25 D8P (in) "Data Bit 8, Positive.", 26 D8N (in) "Data Bit 8, Negative.", 27 DCIP (in) "Data Clock Input, Positive.", 28 DCIN (in) "Data Clock Input, Negative.", 31 D7P (in) "Data Bit 7, Positive.", 32 D7N (in) "Data Bit 7, Negative.", 33 D6P (in) "Data Bit 6, Positive.", 34 D6N (in) "Data Bit 6, Negative.", 35 D5P (in) "Data Bit 5, Positive.", 36 D5N (in) "Data Bit 5, Negative.", 37 D4P (in) "Data Bit 4, Positive.", 38 D4N (in) "Data Bit 4, Negative.", 39 D3P (in) "Data Bit 3, Positive.", 40 D3N (in) "Data Bit 3, Negative.", 41 D2P (in) "Data Bit 2, Positive.", 42 D2N (in) "Data Bit 2, Negative.", 45 D1P (in) "Data Bit 1, Positive.", 46 D1N (in) "Data Bit 1, Negative.", 47 D0P (in) "Data Bit 0 (LSB), Positive.", 48 D0N (in) "Data Bit 0 (LSB), Negative.", 58 IOUT2P (hiz) "Q DAC Positive Current Output.", 59 IOUT2N (hiz) "Q DAC negative Current Output.", 66 IOUT1N (hiz) "DAC Negative Current Output.", 67 IOUT1P (hiz) "DAC positive Current Output."
part B pins: 2 DACCLKP (in) "DAC Clock Input, Positive.", 3 DACCLKN (in) "DAC Clock Input, Negative.", 7 ~{IRQ} (oc) "Interrupt Request. Open-drain, active low output. Connect an external pull-up to IOVDD through a 10 kO resistor.", 10 NC "No Connect. Do not connect to this pin.", 50 SDO (hiz) "Serial Port Data Output (CMOS Levels with Respect to IOVDD).", 51 SDIO (io) "Serial Port Data Input/Output (CMOS Levels with Respect to IOVDD).", 52 SCLK (in) "Serial Port Clock Input (CMOS Levels with Respect to IOVDD).", 53 ~{CS} (in) "Serial Port Chip Select, Active Low (CMOS Levels with Respect to IOVDD).", 54 ~{RESET} (in) "Reset, Active Low (CMOS Levels with Respect to IOVDD).", 55 NC "No Connect. Do not connect to this pin.", 62 REFIO (io) "Voltage Reference. Nominally 1.2 V output. Should be decoupled to AVSS.", 63 FSADJ (in) "Full-Scale Current Output Adjust. Place a 10 kohm resistor from this pin to AVSS.", 69 REFCLKN (in) "PLL Reference Clock Input, Negative. This pin has a secondary function as a synchronization input.", 70 REFCLKP (in) "PLL Reference Clock Input, positive. This pin has a secondary function as a synchronization input."
part C pins: 1 CVDD18 (power) "1.8 V Clock Supply. Supplies clock receivers, clock distribution, and PLL circuitry.", 4 CVSS (power) "Clock Supply Common.", 11 IOVDD (power) "Supply Pin for Serial Port I/O Pins, R\E\S\E\T\, and I\R\Q\. 1.8 V to 3.3 V can be supplied to this pin.", 12 DVDD18 (power) "1.8 V Digital Supply. Supplies power to digital core and digital data ports.", 29 DVDD18 (power) "1.8 V Digital Supply. Supplies power to digital core and digital data ports.", 30 DVSS (power) "Digital Common.", 43 DVDD18 (power) "1.8 V Digital Supply. Supplies power to digital core and digital data ports.", 44 DVSS (power) "Digital Common.", 49 DVDD18 (power) "1.8 V Digital Supply. Supplies power to digital core and digital data ports.", 56 AVSS (power) "Analog Supply Common.", 57 AVDD33 (power) "3.3 V Analog Supply.", 60 AVDD33 (power) "3.3 V Analog Supply.", 61 AVSS (power) "Analog Supply Common.", 64 AVSS (power) "Analog Supply Common.", 65 AVDD33 (power) "3.3 V Analog Supply.", 68 AVDD33 (power) "3.3 V Analog Supply.", 71 CVDD18 (power) "1.8 V Clock Supply. Supplies clock receivers, clock distribution, and PLL circuitry.", 72 CVDD18 (power) "1.8 V Clock Supply. Supplies clock receivers, clock distribution, and PLL circuitry.", 73 EP (power) "The exposed pad (EPAD) must be soldered to the ground plane (AVSS). The EPAD provides an electrical, thermal, and mechanical connection to the board."

## AD9122SCPZ-EP-RL
designator U?
Dual 16-Bit TxDAC, 1230 Msps, -55 to +125 degC, CP-72-7, Pb-Free, Reel; Generic Part Number: AD9122; Manufacturer: Analog Devices; PartNumber: AD9122SCPZ-EP-RL; # DAC Outputs: 2; Max V+: 3.47V; Op Pwr Diss: 1.1W; Resolution (Bits): 16; Single Supply: No; DatasheetVersion: Rev.B; PackageVersion: 052809-A; PackageReference: CP-72-7; PackageDescription: 72-Lead Lead Frame Chip Scale Package [LFCSP_VQ] 10 x 10 mm Body, Very Thin Quad; Supplier 1: Digi-Key; Supplier Part Number 1: AD9122SCPZ-EP-RL-ND; Supplier 2: Mouser; Supplier Part Number 2: 584-AD9122SCPZ-EP-R; Packing: Reel; RoHS: Y; Mounting Technology: Surface Mount; Code_JEDEC: MO-220-VNND-4; ComponentLink1Description: Manufacturer URL; ComponentLink1URL: http://www.analog.com/en/index.html; ComponentLink2Description: Datasheet; ComponentLink2URL: http://www.analog.com/static/imported-files/data_sheets/AD9122.pdf; ComponentLink3Description: Package Specification; ComponentLink3URL: http://www.analog.com/static/imported-files/packages/PKG_PDF/LFCSP(CP)/CP_72_7.pdf; ComponentLink4Description: Product URL; ComponentLink4URL: http://www.analog.com/en/digital-to-analog-converters/da-converters/ad9122/products/product.html
footprint CP-72-7_N (QFN, 72-Leads, Body 10x10mm, Pitch 0.5mm, Thermal Pad 6x6mm, IPC Medium Density)
footprint CP-72-7_L (QFN, 72-Leads, Body 10x10mm, Pitch 0.5mm, Thermal Pad 6x6mm, IPC High Density)
footprint CP-72-7_M (QFN, 72-Leads, Body 10x10mm, Pitch 0.5mm, Thermal Pad 6x6mm, IPC Low Density)
part A pins: 5 FRAMEP (in) "Frame Input, Positive. This pin must be tied to DVSS if not used.", 6 FRAMEN (in) "Frame Input, Negative. This pin must be tied to DVDD18 if not used.", 8 D15P (in) "Data Bit 15 (MSB), Positive.", 9 D15N (in) "Data Bit 15 (MSB), Negative.", 13 D14P (in) "Data Bit 14, Positive.", 14 D14N (in) "Data Bit 14, Negative.", 15 D13P (in) "Data Bit 13, Positive.", 16 D13N (in) "Data Bit 13, Negative.", 17 D12P (in) "Data Bit 12, Positive.", 18 D12N (in) "Data Bit 12, Negative.", 19 D11P (in) "Data Bit 11, Positive.", 20 D11N (in) "Data Bit 11, Negative.", 21 D10P (in) "Data Bit 10, Positive.", 22 D10N (in) "Data Bit 10, Negative.", 23 D9P (in) "Data Bit 9, Positive.", 24 D9N (in) "Data Bit 9, Negative.", 25 D8P (in) "Data Bit 8, Positive.", 26 D8N (in) "Data Bit 8, Negative.", 27 DCIP (in) "Data Clock Input, Positive.", 28 DCIN (in) "Data Clock Input, Negative.", 31 D7P (in) "Data Bit 7, Positive.", 32 D7N (in) "Data Bit 7, Negative.", 33 D6P (in) "Data Bit 6, Positive.", 34 D6N (in) "Data Bit 6, Negative.", 35 D5P (in) "Data Bit 5, Positive.", 36 D5N (in) "Data Bit 5, Negative.", 37 D4P (in) "Data Bit 4, Positive.", 38 D4N (in) "Data Bit 4, Negative.", 39 D3P (in) "Data Bit 3, Positive.", 40 D3N (in) "Data Bit 3, Negative.", 41 D2P (in) "Data Bit 2, Positive.", 42 D2N (in) "Data Bit 2, Negative.", 45 D1P (in) "Data Bit 1, Positive.", 46 D1N (in) "Data Bit 1, Negative.", 47 D0P (in) "Data Bit 0 (LSB), Positive.", 48 D0N (in) "Data Bit 0 (LSB), Negative.", 58 IOUT2P (hiz) "Q DAC Positive Current Output.", 59 IOUT2N (hiz) "Q DAC negative Current Output.", 66 IOUT1N (hiz) "DAC Negative Current Output.", 67 IOUT1P (hiz) "DAC positive Current Output."
part B pins: 2 DACCLKP (in) "DAC Clock Input, Positive.", 3 DACCLKN (in) "DAC Clock Input, Negative.", 7 ~{IRQ} (oc) "Interrupt Request. Open-drain, active low output. Connect an external pull-up to IOVDD through a 10 kO resistor.", 10 NC "No Connect. Do not connect to this pin.", 50 SDO (hiz) "Serial Port Data Output (CMOS Levels with Respect to IOVDD).", 51 SDIO (io) "Serial Port Data Input/Output (CMOS Levels with Respect to IOVDD).", 52 SCLK (in) "Serial Port Clock Input (CMOS Levels with Respect to IOVDD).", 53 ~{CS} (in) "Serial Port Chip Select, Active Low (CMOS Levels with Respect to IOVDD).", 54 ~{RESET} (in) "Reset, Active Low (CMOS Levels with Respect to IOVDD).", 55 NC "No Connect. Do not connect to this pin.", 62 REFIO (io) "Voltage Reference. Nominally 1.2 V output. Should be decoupled to AVSS.", 63 FSADJ (in) "Full-Scale Current Output Adjust. Place a 10 kohm resistor from this pin to AVSS.", 69 REFCLKN (in) "PLL Reference Clock Input, Negative. This pin has a secondary function as a synchronization input.", 70 REFCLKP (in) "PLL Reference Clock Input, positive. This pin has a secondary function as a synchronization input."
part C pins: 1 CVDD18 (power) "1.8 V Clock Supply. Supplies clock receivers, clock distribution, and PLL circuitry.", 4 CVSS (power) "Clock Supply Common.", 11 IOVDD (power) "Supply Pin for Serial Port I/O Pins, R\E\S\E\T\, and I\R\Q\. 1.8 V to 3.3 V can be supplied to this pin.", 12 DVDD18 (power) "1.8 V Digital Supply. Supplies power to digital core and digital data ports.", 29 DVDD18 (power) "1.8 V Digital Supply. Supplies power to digital core and digital data ports.", 30 DVSS (power) "Digital Common.", 43 DVDD18 (power) "1.8 V Digital Supply. Supplies power to digital core and digital data ports.", 44 DVSS (power) "Digital Common.", 49 DVDD18 (power) "1.8 V Digital Supply. Supplies power to digital core and digital data ports.", 56 AVSS (power) "Analog Supply Common.", 57 AVDD33 (power) "3.3 V Analog Supply.", 60 AVDD33 (power) "3.3 V Analog Supply.", 61 AVSS (power) "Analog Supply Common.", 64 AVSS (power) "Analog Supply Common.", 65 AVDD33 (power) "3.3 V Analog Supply.", 68 AVDD33 (power) "3.3 V Analog Supply.", 71 CVDD18 (power) "1.8 V Clock Supply. Supplies clock receivers, clock distribution, and PLL circuitry.", 72 CVDD18 (power) "1.8 V Clock Supply. Supplies clock receivers, clock distribution, and PLL circuitry.", 73 EP (power) "The exposed pad (EPAD) must be soldered to the ground plane (AVSS). The EPAD provides an electrical, thermal, and mechanical connection to the board."

## AD9125BCPZ
designator U?
Dual 16-Bit TxDAC, -40 to +85 degC, CP-72-7, Pb-Free, Tray; Generic Part Number: AD9125; Manufacturer: Analog Devices; PartNumber: AD9125BCPZ; # DAC Outputs: 2; Max V+: 3.47V; Op Pwr Diss: 1.1W; Resolution (Bits): 16; Single Supply: No; DatasheetVersion: Rev.0; PackageVersion: 052809-A; PackageReference: CP-72-7; PackageDescription: 72-Lead Lead Frame Chip Scale Package [LFCSP_VQ] 10 x 10 mm Body, Very Thin Quad; Supplier 1: Digi-Key; Supplier Part Number 1: AD9125BCPZ-ND; Supplier 2: Farnell; Supplier Part Number 2: 1843654; Supplier 3: Newark; Supplier Part Number 3: 51R0742; Supplier 4: Mouser; Supplier Part Number 4: 584-AD9125BCPZ; Packing: Tray; RoHS: Y; Mounting Technology: Surface Mount; Code_JEDEC: MO-220-VNND-4; ComponentLink1Description: Manufacturer URL; ComponentLink1URL: http://www.analog.com/en/index.html; ComponentLink2Description: Datasheet; ComponentLink2URL: http://www.analog.com/static/imported-files/data_sheets/AD9125.pdf; ComponentLink3Description: Package Specification; ComponentLink3URL: http://www.analog.com/static/imported-files/packages/PKG_PDF/LFCSP(CP)/CP_72_7.pdf; ComponentLink4Description: Product URL; ComponentLink4URL: http://www.analog.com/en/digital-to-analog-converters/da-converters/ad9125/products/product.html
footprint CP-72-7_N (QFN, 72-Leads, Body 10x10mm, Pitch 0.5mm, Thermal Pad 6x6mm, IPC Medium Density)
footprint CP-72-7_L (QFN, 72-Leads, Body 10x10mm, Pitch 0.5mm, Thermal Pad 6x6mm, IPC High Density)
footprint CP-72-7_M (QFN, 72-Leads, Body 10x10mm, Pitch 0.5mm, Thermal Pad 6x6mm, IPC Low Density)
part A pins: 31 D15 (in) "Data Bit 15.", 32 D14 (in) "Data Bit 14.", 33 D13 (in) "Data Bit 13.", 34 D12 (in) "Data Bit 12.", 35 D11 (in) "Data Bit 11.", 36 D10 (in) "Data Bit 10.", 37 D9 (in) "Data Bit 9.", 38 D8 (in) "Data Bit 8.", 39 D7 (in) "Data Bit 7.", 40 D6 (in) "Data Bit 6.", 41 D5 (in) "Data Bit 5.", 42 D4 (in) "Data Bit 4.", 45 D3 (in) "Data Bit 3.", 46 D2 (in) "Data Bit 2.", 47 D1 (in) "Data Bit 1.", 48 D0 (in) "Data Bit 0.", 66 IOUT1N (hiz) "I DAC Negative Current Output.", 67 IOUT1P (hiz) "I DAC Positive Current Output."
part B pins: 8 D31 (in) "Data Bit 31.", 9 D30 (in) "Data Bit 30.", 13 D29 (in) "Data Bit 29.", 14 D28 (in) "Data Bit 28.", 15 D27 (in) "Data Bit 27.", 16 D26 (in) "Data Bit 26.", 17 D25 (in) "Data Bit 25.", 18 D24 (in) "Data Bit 24.", 19 D23 (in) "Data Bit 23.", 20 D22 (in) "Data Bit 22.", 21 D21 (in) "Data Bit 21.", 22 D20 (in) "Data Bit 20.", 23 D19 (in) "Data Bit 19.", 24 D18 (in) "Data Bit 18.", 25 D17 (in) "Data Bit 17.", 26 D16 (in) "Data Bit 16.", 58 IOUT2P (hiz) "Q DAC Positive Current Output.", 59 IOUT2N (hiz) "Q DAC Negative Current Output."
part C pins: 2 DACCLKP (in) "DAC Clock Input, Positive.", 3 DACCLKN (in) "DAC Clock Input, Negative.", 5 FRAME (in) "Frame Input.", 6 NC "No Connect", 7 ~{IRQ} (~{INT}) (oc) "Interrupt Request. Open Drain, Active Low Output. Connect external pull-up to IOVDD.", 10 NC "No Connect", 27 DCI (in) "Data Clock Input.", 28 NC "No Connect", 50 SDO (hiz) "Serial Port Data Output (CMOS levels with respect to IOVDD).", 51 SDIO (io) "Serial Port Data Input/Output (CMOS levels with respect to IOVDD).", 52 SCLK (in) "Serial Port Clock Input (CMOS levels with respect to IOVDD).", 53 ~{CS} (in) "Serial Port Chip Select. Active Low (CMOS levels with respect to IOVDD).", 54 ~{RESET} (in) "Reset. Active Low (CMOS levels with respect to IOVDD).", 55 NC "No Connect", 62 REFIO (io) "Voltage Reference. Nominally 1.2 V output. Should be decoupled to analog common.", 63 FSADJ (in) "Full-Scale Current Output Adjust. Place a 10 kohm resistor on the analog common.", 69 REFCLKN (in) "PLL Reference Clock Input, Negative. This pin has a secondary function as the SYNC input.", 70 REFCLKP (in) "PLL Reference Clock Input, Positive. This pin has a secondary function as the SYNC input."
part D pins: 1 CVDD18 (power) "1.8 V Clock Supply. Supplies clock receivers, clock distribution, and PLL circuitry.", 4 CVSS (power) "Clock Supply Common.", 11 IOVDD (power) "Supply for Serial Port Pin, R\E\S\E\T\ Pin, and I\R\Q\ Pin. 1.8 V to 3.3 V can be applied to this pin.", 12 DVDD18 (power) "1.8 V Digital Supply. Supplies power to digital core and digital data ports.", 29 DVDD18 (power) "1.8 V Digital Supply.", 30 DVSS (power) "Digital Common.", 43 DVDD18 (power) "1.8 V Digital Supply.", 44 DVSS (power) "Digital Supply Common.", 49 DVDD18 (power) "1.8 V Digital Supply.", 56 AVSS (power) "Analog Supply Common.", 57 AVDD33 (power) "3.3 V Analog Supply.", 60 AVDD33 (power) "3.3 V Analog Supply.", 61 AVSS (power) "Analog Supply Common.", 64 AVSS (power) "Analog Common.", 65 AVDD33 (power) "3.3 V Analog Supply.", 68 AVDD33 (power) "3.3 V Analog Supply.", 71 CVDD18 (power) "1.8 V Clock Supply. Supplies clock receivers, clock distribution, and PLL circuitry.", 72 CVDD18 (power) "1.8 V Clock Supply. Supplies clock receivers, clock distribution, and PLL circuitry.", 73 EP (power) "Exposed pad must be connected to AVSS. This provides an electrical, thermal, and mechanical connection to the PCB."

## AD9125BCPZRL
designator U?
Dual 16-Bit TxDAC, -40 to +85 degC, CP-72-7, Pb-Free, Reel; Generic Part Number: AD9125; Manufacturer: Analog Devices; PartNumber: AD9125BCPZRL; # DAC Outputs: 2; Max V+: 3.47V; Op Pwr Diss: 1.1W; Resolution (Bits): 16; Single Supply: No; DatasheetVersion: Rev.0; PackageVersion: 052809-A; PackageReference: CP-72-7; PackageDescription: 72-Lead Lead Frame Chip Scale Package [LFCSP_VQ] 10 x 10 mm Body, Very Thin Quad; Supplier 1: Digi-Key; Supplier Part Number 1: AD9125BCPZRL-ND; Supplier 2: Mouser; Supplier Part Number 2: 584-AD9125BCPZR; Packing: Reel; RoHS: Y; Mounting Technology: Surface Mount; Code_JEDEC: MO-220-VNND-4; ComponentLink1Description: Manufacturer URL; ComponentLink1URL: http://www.analog.com/en/index.html; ComponentLink2Description: Datasheet; ComponentLink2URL: http://www.analog.com/static/imported-files/data_sheets/AD9125.pdf; ComponentLink3Description: Package Specification; ComponentLink3URL: http://www.analog.com/static/imported-files/packages/PKG_PDF/LFCSP(CP)/CP_72_7.pdf; ComponentLink4Description: Product URL; ComponentLink4URL: http://www.analog.com/en/digital-to-analog-converters/da-converters/ad9125/products/product.html
footprint CP-72-7_N (QFN, 72-Leads, Body 10x10mm, Pitch 0.5mm, Thermal Pad 6x6mm, IPC Medium Density)
footprint CP-72-7_L (QFN, 72-Leads, Body 10x10mm, Pitch 0.5mm, Thermal Pad 6x6mm, IPC High Density)
footprint CP-72-7_M (QFN, 72-Leads, Body 10x10mm, Pitch 0.5mm, Thermal Pad 6x6mm, IPC Low Density)
part A pins: 31 D15 (in) "Data Bit 15.", 32 D14 (in) "Data Bit 14.", 33 D13 (in) "Data Bit 13.", 34 D12 (in) "Data Bit 12.", 35 D11 (in) "Data Bit 11.", 36 D10 (in) "Data Bit 10.", 37 D9 (in) "Data Bit 9.", 38 D8 (in) "Data Bit 8.", 39 D7 (in) "Data Bit 7.", 40 D6 (in) "Data Bit 6.", 41 D5 (in) "Data Bit 5.", 42 D4 (in) "Data Bit 4.", 45 D3 (in) "Data Bit 3.", 46 D2 (in) "Data Bit 2.", 47 D1 (in) "Data Bit 1.", 48 D0 (in) "Data Bit 0.", 66 IOUT1N (hiz) "I DAC Negative Current Output.", 67 IOUT1P (hiz) "I DAC Positive Current Output."
part B pins: 8 D31 (in) "Data Bit 31.", 9 D30 (in) "Data Bit 30.", 13 D29 (in) "Data Bit 29.", 14 D28 (in) "Data Bit 28.", 15 D27 (in) "Data Bit 27.", 16 D26 (in) "Data Bit 26.", 17 D25 (in) "Data Bit 25.", 18 D24 (in) "Data Bit 24.", 19 D23 (in) "Data Bit 23.", 20 D22 (in) "Data Bit 22.", 21 D21 (in) "Data Bit 21.", 22 D20 (in) "Data Bit 20.", 23 D19 (in) "Data Bit 19.", 24 D18 (in) "Data Bit 18.", 25 D17 (in) "Data Bit 17.", 26 D16 (in) "Data Bit 16.", 58 IOUT2P (hiz) "Q DAC Positive Current Output.", 59 IOUT2N (hiz) "Q DAC Negative Current Output."
part C pins: 2 DACCLKP (in) "DAC Clock Input, Positive.", 3 DACCLKN (in) "DAC Clock Input, Negative.", 5 FRAME (in) "Frame Input.", 6 NC "No Connect", 7 ~{IRQ} (~{INT}) (oc) "Interrupt Request. Open Drain, Active Low Output. Connect external pull-up to IOVDD.", 10 NC "No Connect", 27 DCI (in) "Data Clock Input.", 28 NC "No Connect", 50 SDO (hiz) "Serial Port Data Output (CMOS levels with respect to IOVDD).", 51 SDIO (io) "Serial Port Data Input/Output (CMOS levels with respect to IOVDD).", 52 SCLK (in) "Serial Port Clock Input (CMOS levels with respect to IOVDD).", 53 ~{CS} (in) "Serial Port Chip Select. Active Low (CMOS levels with respect to IOVDD).", 54 ~{RESET} (in) "Reset. Active Low (CMOS levels with respect to IOVDD).", 55 NC "No Connect", 62 REFIO (io) "Voltage Reference. Nominally 1.2 V output. Should be decoupled to analog common.", 63 FSADJ (in) "Full-Scale Current Output Adjust. Place a 10 kohm resistor on the analog common.", 69 REFCLKN (in) "PLL Reference Clock Input, Negative. This pin has a secondary function as the SYNC input.", 70 REFCLKP (in) "PLL Reference Clock Input, Positive. This pin has a secondary function as the SYNC input."
part D pins: 1 CVDD18 (power) "1.8 V Clock Supply. Supplies clock receivers, clock distribution, and PLL circuitry.", 4 CVSS (power) "Clock Supply Common.", 11 IOVDD (power) "Supply for Serial Port Pin, R\E\S\E\T\ Pin, and I\R\Q\ Pin. 1.8 V to 3.3 V can be applied to this pin.", 12 DVDD18 (power) "1.8 V Digital Supply. Supplies power to digital core and digital data ports.", 29 DVDD18 (power) "1.8 V Digital Supply.", 30 DVSS (power) "Digital Common.", 43 DVDD18 (power) "1.8 V Digital Supply.", 44 DVSS (power) "Digital Supply Common.", 49 DVDD18 (power) "1.8 V Digital Supply.", 56 AVSS (power) "Analog Supply Common.", 57 AVDD33 (power) "3.3 V Analog Supply.", 60 AVDD33 (power) "3.3 V Analog Supply.", 61 AVSS (power) "Analog Supply Common.", 64 AVSS (power) "Analog Common.", 65 AVDD33 (power) "3.3 V Analog Supply.", 68 AVDD33 (power) "3.3 V Analog Supply.", 71 CVDD18 (power) "1.8 V Clock Supply. Supplies clock receivers, clock distribution, and PLL circuitry.", 72 CVDD18 (power) "1.8 V Clock Supply. Supplies clock receivers, clock distribution, and PLL circuitry.", 73 EP (power) "Exposed pad must be connected to AVSS. This provides an electrical, thermal, and mechanical connection to the PCB."